# EAGLE library part MONSTER_SHIELD (library roborregos)
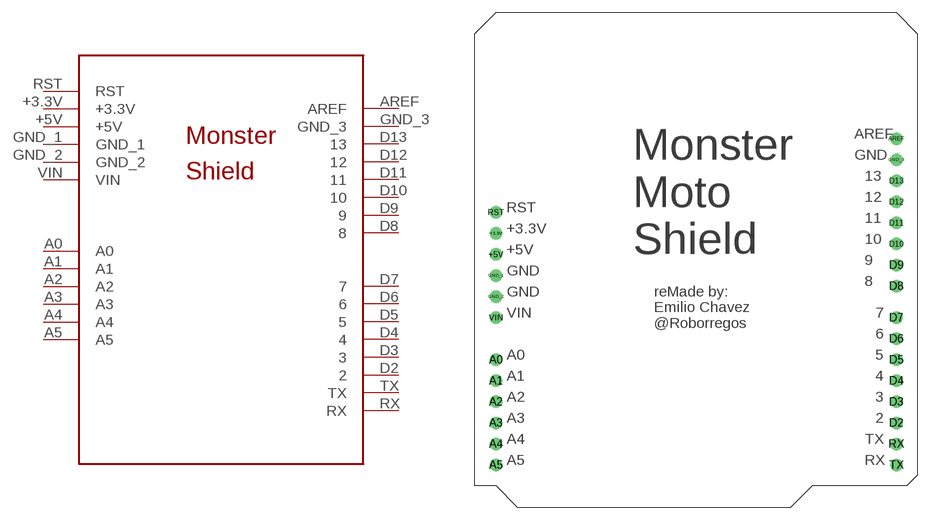
[diagram p0: symbol with the pads of MONSTER_SHIELD; footprint MONSTER_SHIELD]

Designator prefix -

## MONSTER_SHIELD  [MONSTER_SHIELD]
+3.3V  +3.3V
+5V  +5V
A0  A0
A1  A1
A2  A2
A3  A3
A4  A4
A5  A5
AREF  AREF
D2  2
D3  3
D4  4
D5  5
D6  6
D7  7
D8  8
D9  9
D10  10
D11  11
D12  12
D13  13
GND_1  GND_1
GND_2  GND_2
GND_3  GND_3
RST  RST
RX  RX
TX  TX
VIN  VIN

## Footprint MONSTER_SHIELD (pad centres in mm)
drill 1: +3.3V -3.81,2.54; +5V -3.81,0; A0 -3.81,-12.7; A1 -3.81,-15.24; A2 -3.81,-17.78; A3 -3.81,-20.32; A4 -3.81,-22.86; A5 -3.81,-25.4; AREF 44.45,13.97; D2 44.45,-20.32; D3 44.45,-17.78; D4 44.45,-15.24; D5 44.45,-12.7; D6 44.45,-10.16; D7 44.45,-7.62; D8 44.45,-3.81; D9 44.45,-1.27; D10 44.45,1.27; D11 44.45,3.81; D12 44.45,6.35; D13 44.45,8.89; GND_1 -3.81,-2.54; GND_2 -3.81,-5.08; GND_3 44.45,11.43; RST -3.81,5.08; RX 44.45,-22.86; TX 44.45,-25.4; VIN -3.81,-7.62